# Altium footprint library Connectors.PcbLib: 19 footprints (part 2 of 2)
Each footprint in its own frame and in the unit in brackets; x right, y up, seen from the top. Pads: shape width x height; smd on the part's side, far side on the other; paste and mask are expansions set on the pad; w line width, h text height; cw(c..) or ccw(c..) is an arc to the next point about the centre after c.
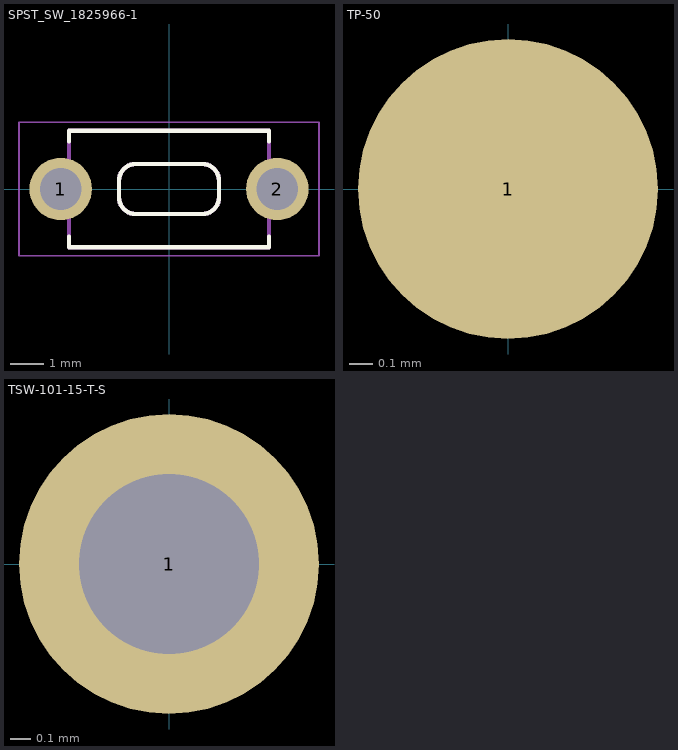
[diagram p1: the footprints below, top view; thin cyan lines are the x and y axes]

## SPST_SW_1825966-1 [mm]
pads (2):
  round 1.875 hole 1.25: 1(-3.25,0) 2(3.25,0)
Top Overlay:
  lines w0.127: -3,-1.422 -3,-1.75 3,-1.75 3,-1.422 ; -3,1.422 -3,1.75 3,1.75 3,1.422 ; -1.5,-0.25 ccw(c-1,-0.25) -1,-0.75 1,-0.75 ccw(c1,-0.25) 1.5,-0.25 1.5,0.25 ccw(c1,0.25) 1,0.75 -1,0.75 ccw(c-1,0.25) -1.5,0.25 -1.5,-0.25
Mechanical 13:
  lines w0.127: -3,-1.75 3,-1.75 ; -3,-1.75 -3,1.75 ; -3,-1.75 3,-1.75 ; -3,-1.75 -3,1.75 ; -3,1.75 3,1.75 ; -3,1.75 3,1.75 ; -1.5,-0.25 ccw(c-1,-0.25) -1,-0.75 ; -1.5,-0.25 ccw(c-1,-0.25) -1,-0.75 ; -1.5,-0.25 -1.5,0.25 ; -1.5,-0.25 -1.5,0.25 ; -1.5,0.25 cw(c-1,0.25) -1,0.75 ; -1.5,0.25 cw(c-1,0.25) -1,0.75 ; -1,-0.75 1,-0.75 ; -1,-0.75 1,-0.75 ; -1,0.75 1,0.75 ; -1,0.75 1,0.75 ; 1,-0.75 ccw(c1,-0.25) 1.5,-0.25 ; 1,-0.75 ccw(c1,-0.25) 1.5,-0.25 ; 1,0.75 cw(c1,0.25) 1.5,0.25 ; 1,0.75 cw(c1,0.25) 1.5,0.25 ; 1.5,-0.25 1.5,0.25 ; 1.5,-0.25 1.5,0.25 ; 3,-1.75 3,1.75 ; 3,-1.75 3,1.75
Mechanical 15:
  lines w0.05: -4.5,-2 -4.5,2 4.5,2 4.5,-2 -4.5,-2

## TP-50 [mil] "Testpoint 50mil diameter"
pads (1):
  round 50 smd paste-25: 1(0,0)

## TSW-101-15-T-S [mm] "CONN HEADER VERT 1POS"
height 8.51
pads (1):
  round 1.5 hole 0.9: 1(0,0)